# Altium integrated library Linear Technology PMIC-Switching Reg LT1074-LT8705.IntLib: 2252 symbols (part 64 of 124)
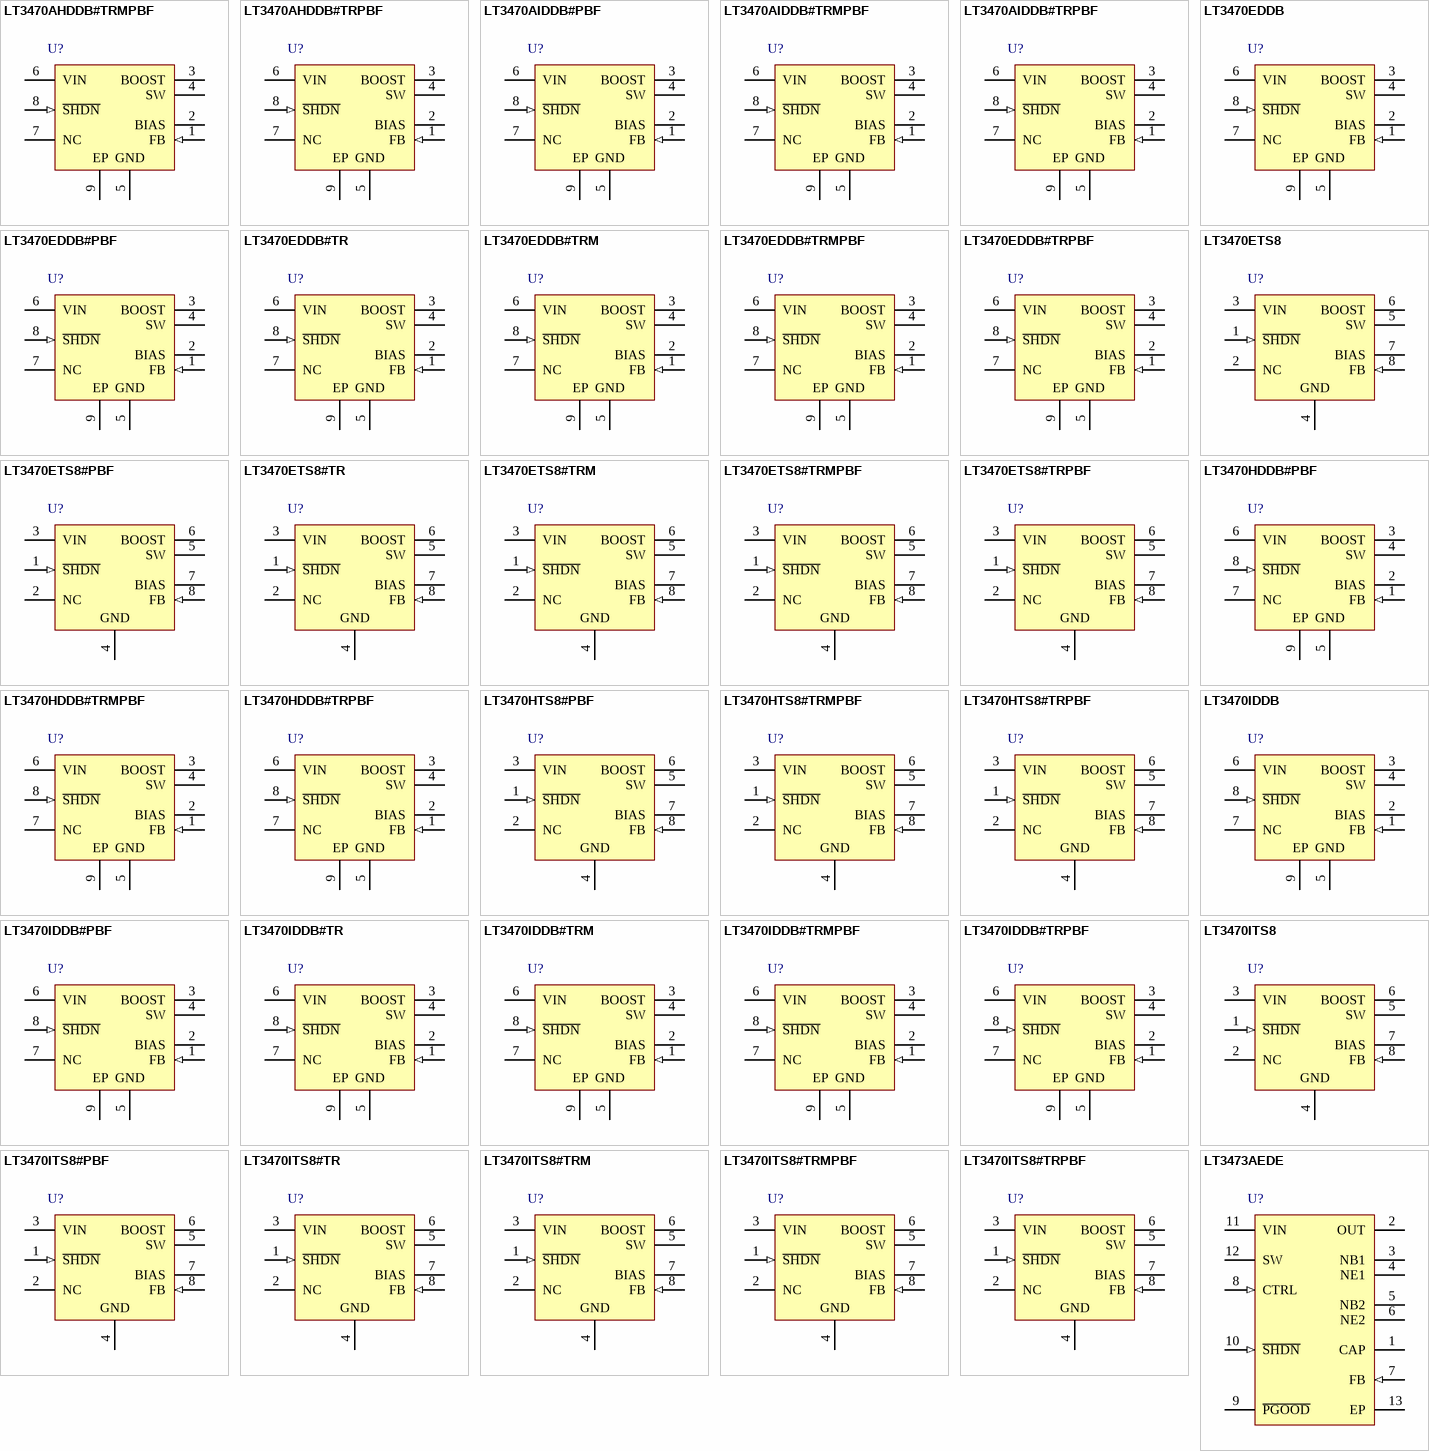
[diagram p134: symbols LT3470AHDDB#TRMPBF to LT3473AEDE]

## LT3470ITS8
designator U?
Micropower Buck Regulator with Integrated Boost and Catch Diode, 8-pin SOT23 (TS8-8), -40 to 125 degC; Manufacturer: Linear Technology; PartNumber: LT3470ITS8; Number of Outputs: 1; PackageReference: TS8-8; PackageDescription: 8-Pin Plastic TSOT-23, Body 2.9 x 1.63 mm, Pitch 0.65 mm; RoHS: FALSE
footprint LT-TS8-8-TSOT-23_V (SOT23, 8-Leads, Body 2.9x1.75mm, Pitch 0.65mm)
pins: 1 ~{SHDN} (in) "The S\H\D\N\ pin is used to put the LT3470 in shutdown mode. Tie to ground to shut down the LT3470A. Apply 2V or more for normal operation. If the shutdown feature is not used, tie this pin to the VIN pin.", 2 NC "This pin can be left floating, connected to VIN, or tied to GND.", 3 VIN (power) "The VIN pin supplies current to the LT3470¡¯s internal regulator and to the internal power switch. This pin must be locally bypassed.", 4 GND (power) "Tie the GND pin to a local ground plane below the LT3470A and the circuit components. Return the feedback divider to this pin.", 5 SW (power) "The SW pin is the output of the internal power switch. Connect this pin to the inductor, catch diode and boost capacitor.", 6 BOOST "The BOOST pin is used to provide a drive voltage, which is higher than the input voltage, to the internal bipolar NPN power switch.", 7 BIAS (power) "The BIAS pin connects to the internal boost Schottky diode and to the internal regulator. Tie to VOUT when VOUT > 2.5V or to VIN otherwise. When VBIAS > 3V the BIAS pin will supply current to the internal regulator.", 8 FB (in) "The LT3470 regulates its feedback pin to 1.25V. Connect the feedback resistor divider tap to this pin. Set the output voltage according to VOUT = 1.25V (1 + R1/R2) or R1 = R2 (VOUT/1.25 - 1)."

## LT3470ITS8#PBF
designator U?
Micropower Buck Regulator with Integrated Boost and Catch Diode, 8-pin SOT23 (TS8-8), -40 to 125 degC, Pb-Free; Manufacturer: Linear Technology; PartNumber: LT3470ITS8#PBF; Number of Outputs: 1; PackageReference: TS8-8; PackageDescription: 8-Pin Plastic TSOT-23, Body 2.9 x 1.63 mm, Pitch 0.65 mm; Supplier 1: Newark; Supplier Part Number 1: 61M3375; RoHS: TRUE
footprint LT-TS8-8-TSOT-23_V (SOT23, 8-Leads, Body 2.9x1.75mm, Pitch 0.65mm)
pins: 1 ~{SHDN} (in) "The S\H\D\N\ pin is used to put the LT3470 in shutdown mode. Tie to ground to shut down the LT3470A. Apply 2V or more for normal operation. If the shutdown feature is not used, tie this pin to the VIN pin.", 2 NC "This pin can be left floating, connected to VIN, or tied to GND.", 3 VIN (power) "The VIN pin supplies current to the LT3470¡¯s internal regulator and to the internal power switch. This pin must be locally bypassed.", 4 GND (power) "Tie the GND pin to a local ground plane below the LT3470A and the circuit components. Return the feedback divider to this pin.", 5 SW (power) "The SW pin is the output of the internal power switch. Connect this pin to the inductor, catch diode and boost capacitor.", 6 BOOST "The BOOST pin is used to provide a drive voltage, which is higher than the input voltage, to the internal bipolar NPN power switch.", 7 BIAS (power) "The BIAS pin connects to the internal boost Schottky diode and to the internal regulator. Tie to VOUT when VOUT > 2.5V or to VIN otherwise. When VBIAS > 3V the BIAS pin will supply current to the internal regulator.", 8 FB (in) "The LT3470 regulates its feedback pin to 1.25V. Connect the feedback resistor divider tap to this pin. Set the output voltage according to VOUT = 1.25V (1 + R1/R2) or R1 = R2 (VOUT/1.25 - 1)."

## LT3470ITS8#TR
designator U?
Micropower Buck Regulator with Integrated Boost and Catch Diode, 8-pin SOT23 (TS8-8), -40 to 125 degC, Tape and Reel; Manufacturer: Linear Technology; PartNumber: LT3470ITS8#TR; Number of Outputs: 1; PackageReference: TS8-8; PackageDescription: 8-Pin Plastic TSOT-23, Body 2.9 x 1.63 mm, Pitch 0.65 mm; RoHS: FALSE
footprint LT-TS8-8-TSOT-23_V (SOT23, 8-Leads, Body 2.9x1.75mm, Pitch 0.65mm)
pins: 1 ~{SHDN} (in) "The S\H\D\N\ pin is used to put the LT3470 in shutdown mode. Tie to ground to shut down the LT3470A. Apply 2V or more for normal operation. If the shutdown feature is not used, tie this pin to the VIN pin.", 2 NC "This pin can be left floating, connected to VIN, or tied to GND.", 3 VIN (power) "The VIN pin supplies current to the LT3470¡¯s internal regulator and to the internal power switch. This pin must be locally bypassed.", 4 GND (power) "Tie the GND pin to a local ground plane below the LT3470A and the circuit components. Return the feedback divider to this pin.", 5 SW (power) "The SW pin is the output of the internal power switch. Connect this pin to the inductor, catch diode and boost capacitor.", 6 BOOST "The BOOST pin is used to provide a drive voltage, which is higher than the input voltage, to the internal bipolar NPN power switch.", 7 BIAS (power) "The BIAS pin connects to the internal boost Schottky diode and to the internal regulator. Tie to VOUT when VOUT > 2.5V or to VIN otherwise. When VBIAS > 3V the BIAS pin will supply current to the internal regulator.", 8 FB (in) "The LT3470 regulates its feedback pin to 1.25V. Connect the feedback resistor divider tap to this pin. Set the output voltage according to VOUT = 1.25V (1 + R1/R2) or R1 = R2 (VOUT/1.25 - 1)."

## LT3470ITS8#TRM
designator U?
Micropower Buck Regulator with Integrated Boost and Catch Diode, 8-pin SOT23 (TS8-8), -40 to 125 degC, Mini Tape and Reel; Manufacturer: Linear Technology; PartNumber: LT3470ITS8#TRM; Number of Outputs: 1; PackageReference: TS8-8; PackageDescription: 8-Pin Plastic TSOT-23, Body 2.9 x 1.63 mm, Pitch 0.65 mm; RoHS: FALSE
footprint LT-TS8-8-TSOT-23_V (SOT23, 8-Leads, Body 2.9x1.75mm, Pitch 0.65mm)
pins: 1 ~{SHDN} (in) "The S\H\D\N\ pin is used to put the LT3470 in shutdown mode. Tie to ground to shut down the LT3470A. Apply 2V or more for normal operation. If the shutdown feature is not used, tie this pin to the VIN pin.", 2 NC "This pin can be left floating, connected to VIN, or tied to GND.", 3 VIN (power) "The VIN pin supplies current to the LT3470¡¯s internal regulator and to the internal power switch. This pin must be locally bypassed.", 4 GND (power) "Tie the GND pin to a local ground plane below the LT3470A and the circuit components. Return the feedback divider to this pin.", 5 SW (power) "The SW pin is the output of the internal power switch. Connect this pin to the inductor, catch diode and boost capacitor.", 6 BOOST "The BOOST pin is used to provide a drive voltage, which is higher than the input voltage, to the internal bipolar NPN power switch.", 7 BIAS (power) "The BIAS pin connects to the internal boost Schottky diode and to the internal regulator. Tie to VOUT when VOUT > 2.5V or to VIN otherwise. When VBIAS > 3V the BIAS pin will supply current to the internal regulator.", 8 FB (in) "The LT3470 regulates its feedback pin to 1.25V. Connect the feedback resistor divider tap to this pin. Set the output voltage according to VOUT = 1.25V (1 + R1/R2) or R1 = R2 (VOUT/1.25 - 1)."

## LT3470ITS8#TRMPBF
designator U?
Micropower Buck Regulator with Integrated Boost and Catch Diode, 8-pin SOT23 (TS8-8), -40 to 125 degC, Pb-Free, Mini Tape and Reel; Manufacturer: Linear Technology; PartNumber: LT3470ITS8#TRMPBF; Number of Outputs: 1; PackageReference: TS8-8; PackageDescription: 8-Pin Plastic TSOT-23, Body 2.9 x 1.63 mm, Pitch 0.65 mm; Supplier 1: Digi-Key; Supplier Part Number 1: LT3470ITS8#TRMPBFTR-ND; RoHS: TRUE
footprint LT-TS8-8-TSOT-23_V (SOT23, 8-Leads, Body 2.9x1.75mm, Pitch 0.65mm)
pins: 1 ~{SHDN} (in) "The S\H\D\N\ pin is used to put the LT3470 in shutdown mode. Tie to ground to shut down the LT3470A. Apply 2V or more for normal operation. If the shutdown feature is not used, tie this pin to the VIN pin.", 2 NC "This pin can be left floating, connected to VIN, or tied to GND.", 3 VIN (power) "The VIN pin supplies current to the LT3470¡¯s internal regulator and to the internal power switch. This pin must be locally bypassed.", 4 GND (power) "Tie the GND pin to a local ground plane below the LT3470A and the circuit components. Return the feedback divider to this pin.", 5 SW (power) "The SW pin is the output of the internal power switch. Connect this pin to the inductor, catch diode and boost capacitor.", 6 BOOST "The BOOST pin is used to provide a drive voltage, which is higher than the input voltage, to the internal bipolar NPN power switch.", 7 BIAS (power) "The BIAS pin connects to the internal boost Schottky diode and to the internal regulator. Tie to VOUT when VOUT > 2.5V or to VIN otherwise. When VBIAS > 3V the BIAS pin will supply current to the internal regulator.", 8 FB (in) "The LT3470 regulates its feedback pin to 1.25V. Connect the feedback resistor divider tap to this pin. Set the output voltage according to VOUT = 1.25V (1 + R1/R2) or R1 = R2 (VOUT/1.25 - 1)."

## LT3470ITS8#TRPBF
designator U?
Micropower Buck Regulator with Integrated Boost and Catch Diode, 8-pin SOT23 (TS8-8), -40 to 125 degC, Pb-Free, Tape and Reel; Manufacturer: Linear Technology; PartNumber: LT3470ITS8#TRPBF; Number of Outputs: 1; PackageReference: TS8-8; PackageDescription: 8-Pin Plastic TSOT-23, Body 2.9 x 1.63 mm, Pitch 0.65 mm; Supplier 1: Digi-Key; Supplier Part Number 1: LT3470ITS8#TRPBF-ND; RoHS: TRUE
footprint LT-TS8-8-TSOT-23_V (SOT23, 8-Leads, Body 2.9x1.75mm, Pitch 0.65mm)
pins: 1 ~{SHDN} (in) "The S\H\D\N\ pin is used to put the LT3470 in shutdown mode. Tie to ground to shut down the LT3470A. Apply 2V or more for normal operation. If the shutdown feature is not used, tie this pin to the VIN pin.", 2 NC "This pin can be left floating, connected to VIN, or tied to GND.", 3 VIN (power) "The VIN pin supplies current to the LT3470¡¯s internal regulator and to the internal power switch. This pin must be locally bypassed.", 4 GND (power) "Tie the GND pin to a local ground plane below the LT3470A and the circuit components. Return the feedback divider to this pin.", 5 SW (power) "The SW pin is the output of the internal power switch. Connect this pin to the inductor, catch diode and boost capacitor.", 6 BOOST "The BOOST pin is used to provide a drive voltage, which is higher than the input voltage, to the internal bipolar NPN power switch.", 7 BIAS (power) "The BIAS pin connects to the internal boost Schottky diode and to the internal regulator. Tie to VOUT when VOUT > 2.5V or to VIN otherwise. When VBIAS > 3V the BIAS pin will supply current to the internal regulator.", 8 FB (in) "The LT3470 regulates its feedback pin to 1.25V. Connect the feedback resistor divider tap to this pin. Set the output voltage according to VOUT = 1.25V (1 + R1/R2) or R1 = R2 (VOUT/1.25 - 1)."

## LT3473AEDE
designator U?
Micropower 1 A Boost Converter with Schottky and Output Disconnect, Includes Two NPN Transistors for Generating Intermediate Bias Voltage Max, 12-pin SON (DE-12), -40 to 85 degC; Manufacturer: Linear Technology; PartNumber: LT3473AEDE; Number of Outputs: 1; PackageReference: DE-12; PackageDescription: 12-Pin Plastic DFN, Body 4 x 3 mm, Pitch 0.5 mm; RoHS: FALSE
footprint LT-DE-12-05-08-1708_V (SON, 12-Leads, Body 4x3mm, Pitch 0.5mm, Thermal Pad 3.3x1.7mm)
pins: 1 CAP "Internal Output Voltage. This pin is the Schottky cathode and disconnect PNP emitter. Connect output capacitor here.", 2 OUT "Output of Disconnect Circuit. Bypass this pin with capacitor to ground.", 3 NB1 "NPN1 Base.", 4 NE1 "NPN1 Emitter.", 5 NB2 "NPN2 Base.", 6 NE2 "NPN2 Emitter.", 7 FB (in) "Feedback Pin. Pin voltage is regulated to 1.25V if internal reference is used or to the CTRL pin voltage if the CTRL pin voltage is between 0V and 1.25V. Connect the fee", 8 CTRL (in) "External Reference Pin. This pin sets the FB voltage externally between 0V and 1.25V. Tie this pin 1.5V or higher to use the internal 1.25V reference.", 9 ~{PGOOD} (oc) "Power Good Output. Open collector logic output that starts to sink current when FB reaches within 100mV of the reference voltage.", 10 ~{SHDN} (in) "Shutdown Pin. Connect to 1.4V or higher to enable device; 0.2V or less to disable device. Also functions as soft-start. Use RC filter as shown in Figure 4.", 11 VIN (power) "Input Supply Pin. Must be locally bypassed with a X5R or X7R type ceramic capacitor.", 12 SW "Switch Pin. Connect inductor here. Minimize the metal trace area connected to the pin to minimize EMI.", 13 EP (power) "Ground. Solder directly to PCB ground plane through multiple vias under the package for optimum thermal performance."

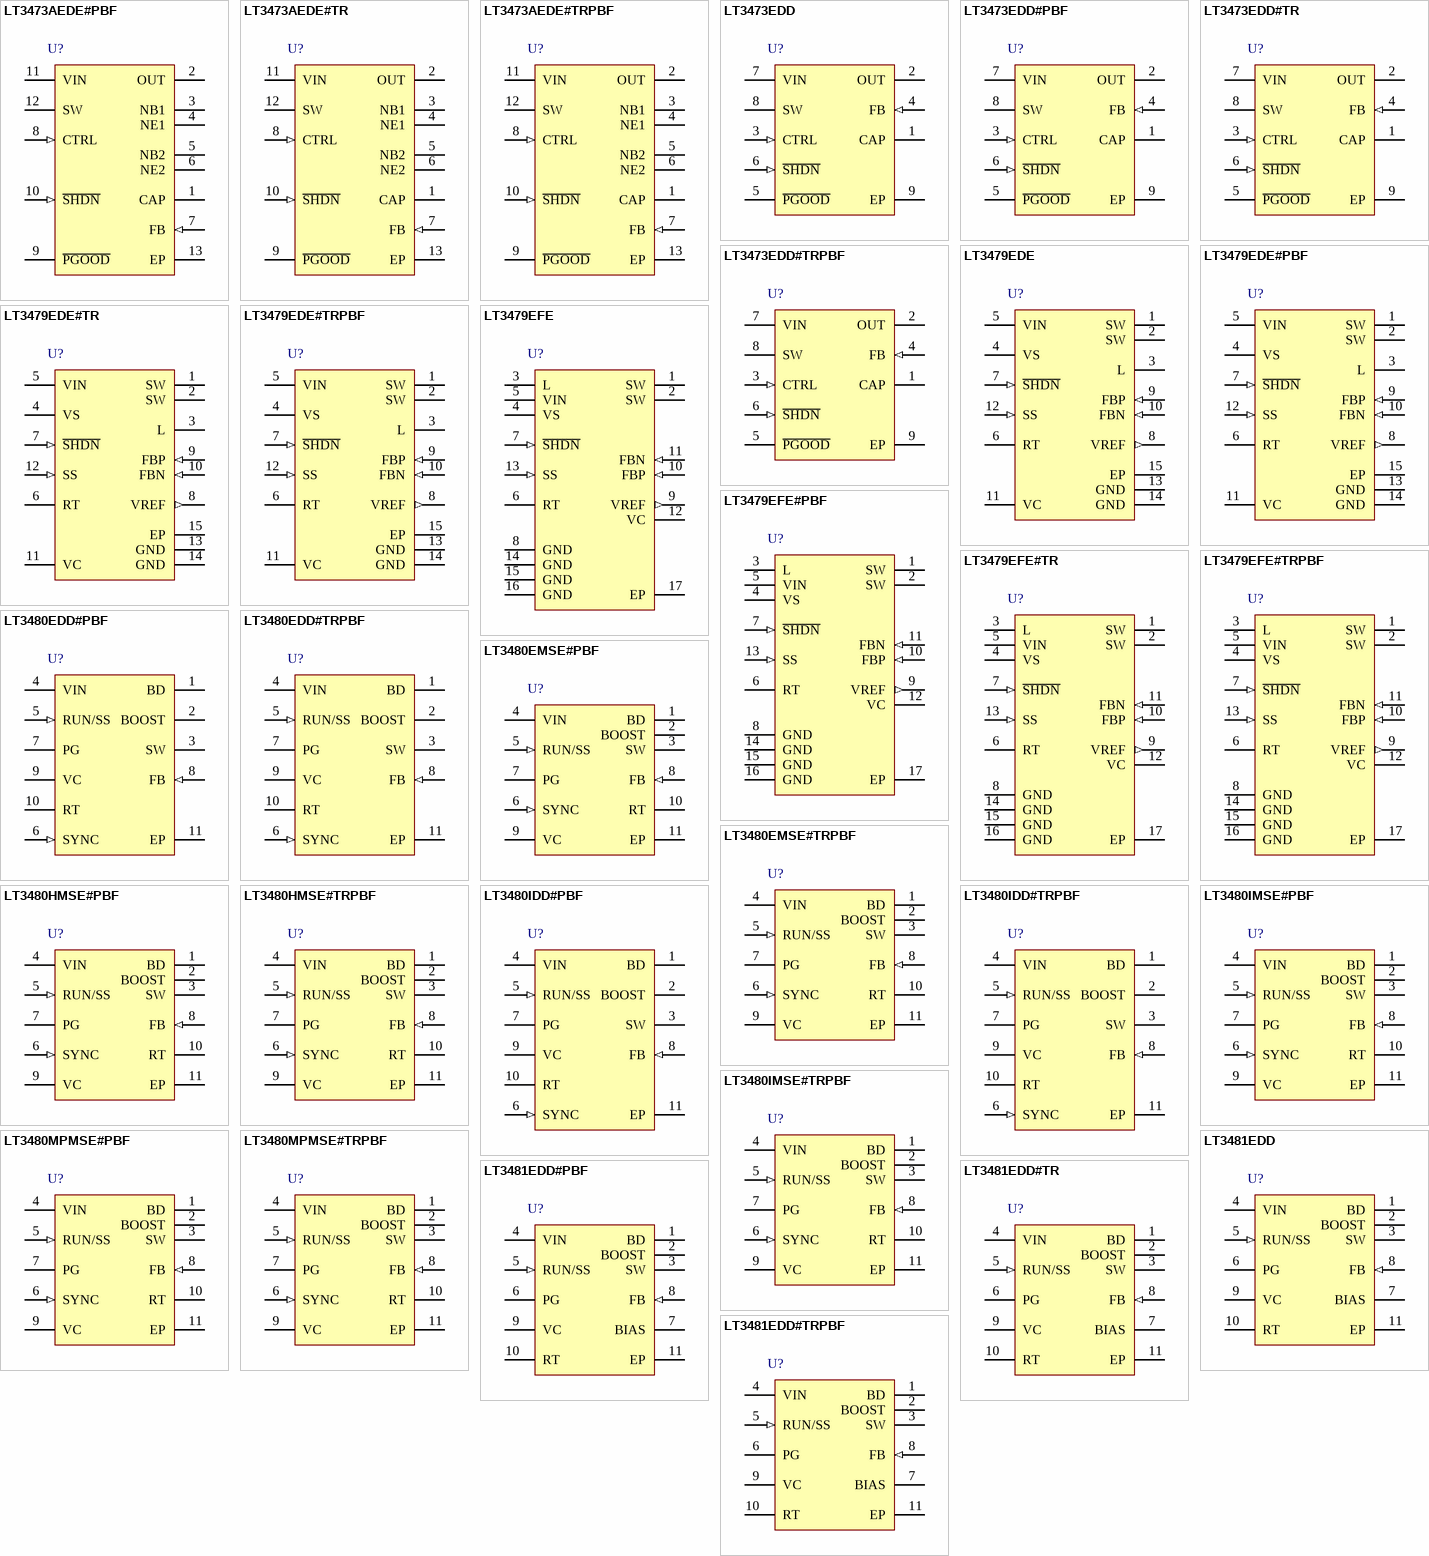
[diagram p39: symbols LT3473AEDE#PBF to LT3481EDD#TRPBF]

## LT3473AEDE#PBF
designator U?
Micropower 1 A Boost Converter with Schottky and Output Disconnect, Includes Two NPN Transistors for Generating Intermediate Bias Voltage Max, 12-pin SON (DE-12), -40 to 85 degC, Pb-Free; Manufacturer: Linear Technology; PartNumber: LT3473AEDE#PBF; Number of Outputs: 1; PackageReference: DE-12; PackageDescription: 12-Pin Plastic DFN, Body 4 x 3 mm, Pitch 0.5 mm; Supplier 1: Digi-Key; Supplier Part Number 1: LT3473AEDE#PBF-ND; RoHS: TRUE
footprint LT-DE-12-05-08-1708_V (SON, 12-Leads, Body 4x3mm, Pitch 0.5mm, Thermal Pad 3.3x1.7mm)
pins: 1 CAP "Internal Output Voltage. This pin is the Schottky cathode and disconnect PNP emitter. Connect output capacitor here.", 2 OUT "Output of Disconnect Circuit. Bypass this pin with capacitor to ground.", 3 NB1 "NPN1 Base.", 4 NE1 "NPN1 Emitter.", 5 NB2 "NPN2 Base.", 6 NE2 "NPN2 Emitter.", 7 FB (in) "Feedback Pin. Pin voltage is regulated to 1.25V if internal reference is used or to the CTRL pin voltage if the CTRL pin voltage is between 0V and 1.25V. Connect the fee", 8 CTRL (in) "External Reference Pin. This pin sets the FB voltage externally between 0V and 1.25V. Tie this pin 1.5V or higher to use the internal 1.25V reference.", 9 ~{PGOOD} (oc) "Power Good Output. Open collector logic output that starts to sink current when FB reaches within 100mV of the reference voltage.", 10 ~{SHDN} (in) "Shutdown Pin. Connect to 1.4V or higher to enable device; 0.2V or less to disable device. Also functions as soft-start. Use RC filter as shown in Figure 4.", 11 VIN (power) "Input Supply Pin. Must be locally bypassed with a X5R or X7R type ceramic capacitor.", 12 SW "Switch Pin. Connect inductor here. Minimize the metal trace area connected to the pin to minimize EMI.", 13 EP (power) "Ground. Solder directly to PCB ground plane through multiple vias under the package for optimum thermal performance."

## LT3473AEDE#TR
designator U?
Micropower 1 A Boost Converter with Schottky and Output Disconnect, Includes Two NPN Transistors for Generating Intermediate Bias Voltage Max, 12-pin SON (DE-12), -40 to 85 degC, Tape and Reel; Manufacturer: Linear Technology; PartNumber: LT3473AEDE#TR; Number of Outputs: 1; PackageReference: DE-12; PackageDescription: 12-Pin Plastic DFN, Body 4 x 3 mm, Pitch 0.5 mm; RoHS: FALSE
footprint LT-DE-12-05-08-1708_V (SON, 12-Leads, Body 4x3mm, Pitch 0.5mm, Thermal Pad 3.3x1.7mm)
pins: 1 CAP "Internal Output Voltage. This pin is the Schottky cathode and disconnect PNP emitter. Connect output capacitor here.", 2 OUT "Output of Disconnect Circuit. Bypass this pin with capacitor to ground.", 3 NB1 "NPN1 Base.", 4 NE1 "NPN1 Emitter.", 5 NB2 "NPN2 Base.", 6 NE2 "NPN2 Emitter.", 7 FB (in) "Feedback Pin. Pin voltage is regulated to 1.25V if internal reference is used or to the CTRL pin voltage if the CTRL pin voltage is between 0V and 1.25V. Connect the fee", 8 CTRL (in) "External Reference Pin. This pin sets the FB voltage externally between 0V and 1.25V. Tie this pin 1.5V or higher to use the internal 1.25V reference.", 9 ~{PGOOD} (oc) "Power Good Output. Open collector logic output that starts to sink current when FB reaches within 100mV of the reference voltage.", 10 ~{SHDN} (in) "Shutdown Pin. Connect to 1.4V or higher to enable device; 0.2V or less to disable device. Also functions as soft-start. Use RC filter as shown in Figure 4.", 11 VIN (power) "Input Supply Pin. Must be locally bypassed with a X5R or X7R type ceramic capacitor.", 12 SW "Switch Pin. Connect inductor here. Minimize the metal trace area connected to the pin to minimize EMI.", 13 EP (power) "Ground. Solder directly to PCB ground plane through multiple vias under the package for optimum thermal performance."

## LT3473AEDE#TRPBF
designator U?
Micropower 1 A Boost Converter with Schottky and Output Disconnect, Includes Two NPN Transistors for Generating Intermediate Bias Voltage Max, 12-pin SON (DE-12), -40 to 85 degC, Pb-Free, Tape and Reel; Manufacturer: Linear Technology; PartNumber: LT3473AEDE#TRPBF; Number of Outputs: 1; PackageReference: DE-12; PackageDescription: 12-Pin Plastic DFN, Body 4 x 3 mm, Pitch 0.5 mm; Supplier 1: Digi-Key; Supplier Part Number 1: LT3473AEDE#TRPBF-ND; RoHS: TRUE
footprint LT-DE-12-05-08-1708_V (SON, 12-Leads, Body 4x3mm, Pitch 0.5mm, Thermal Pad 3.3x1.7mm)
pins: 1 CAP "Internal Output Voltage. This pin is the Schottky cathode and disconnect PNP emitter. Connect output capacitor here.", 2 OUT "Output of Disconnect Circuit. Bypass this pin with capacitor to ground.", 3 NB1 "NPN1 Base.", 4 NE1 "NPN1 Emitter.", 5 NB2 "NPN2 Base.", 6 NE2 "NPN2 Emitter.", 7 FB (in) "Feedback Pin. Pin voltage is regulated to 1.25V if internal reference is used or to the CTRL pin voltage if the CTRL pin voltage is between 0V and 1.25V. Connect the fee", 8 CTRL (in) "External Reference Pin. This pin sets the FB voltage externally between 0V and 1.25V. Tie this pin 1.5V or higher to use the internal 1.25V reference.", 9 ~{PGOOD} (oc) "Power Good Output. Open collector logic output that starts to sink current when FB reaches within 100mV of the reference voltage.", 10 ~{SHDN} (in) "Shutdown Pin. Connect to 1.4V or higher to enable device; 0.2V or less to disable device. Also functions as soft-start. Use RC filter as shown in Figure 4.", 11 VIN (power) "Input Supply Pin. Must be locally bypassed with a X5R or X7R type ceramic capacitor.", 12 SW "Switch Pin. Connect inductor here. Minimize the metal trace area connected to the pin to minimize EMI.", 13 EP (power) "Ground. Solder directly to PCB ground plane through multiple vias under the package for optimum thermal performance."

## LT3473EDD
designator U?
Micropower 1 A Boost Converter with Schottky and Output Disconnect Max, 8-pin SON (DD-8), -40 to 85 degC; Manufacturer: Linear Technology; PartNumber: LT3473EDD; Number of Outputs: 1; PackageReference: DD-8; PackageDescription: 8-Pin Plastic DFN, Body 3 x 3 mm, Pitch 0.5 mm; RoHS: FALSE
footprint LT-DD-8_V (SON, 8-Leads, Body 3x3mm, Pitch 0.5mm, Thermal Pad 1.65x2.38 mm)
pins: 1 CAP "Internal Output Voltage. This pin is the Schottky cathode and disconnect PNP emitter. Connect output capacitor here.", 2 OUT (power) "Output of Disconnect Circuit. Bypass this pin with capacitor to ground.", 3 CTRL (in) "External Reference Pin. This pin sets the FB voltage externally between 0V and 1.25V. Tie this pin 1.5V or higher to use the internal 1.25V reference.", 4 FB (in) "Feedback Pin. Pin voltage is regulated to 1.25V if internal reference is used or to the CTRL pin voltage if the CTRL pin voltage is between 0V and 1.25V. Connect the feedback resistor divider to this pin.", 5 ~{PGOOD} (oc) "Power Good Output. Open collector logic output that starts to sink current when FB reaches within 100mV of the reference voltage.", 6 ~{SHDN} (in) "Shutdown Pin. Connect to 1.4V or higher to enable device; 0.2V or less to disable device. Also functions as soft-start. Use RC filter as shown in Figure 4.", 7 VIN (power) "Input Supply Pin. Must be locally bypassed with a X5R or X7R type ceramic capacitor.", 8 SW "Switch Pin. Connect inductor here. Minimize the metal trace area connected to the pin to minimize EMI.", 9 EP (power) "Ground. Solder directly to PCB ground plane through multiple vias under the package for optimum thermal performance."

## LT3473EDD#PBF
designator U?
Micropower 1 A Boost Converter with Schottky and Output Disconnect Max, 8-pin SON (DD-8), -40 to 85 degC, Pb-Free; Manufacturer: Linear Technology; PartNumber: LT3473EDD#PBF; Number of Outputs: 1; PackageReference: DD-8; PackageDescription: 8-Pin Plastic DFN, Body 3 x 3 mm, Pitch 0.5 mm; Supplier 1: Digi-Key; Supplier Part Number 1: LT3473EDD#PBF-ND; RoHS: TRUE
footprint LT-DD-8_V (SON, 8-Leads, Body 3x3mm, Pitch 0.5mm, Thermal Pad 1.65x2.38 mm)
pins: 1 CAP "Internal Output Voltage. This pin is the Schottky cathode and disconnect PNP emitter. Connect output capacitor here.", 2 OUT (power) "Output of Disconnect Circuit. Bypass this pin with capacitor to ground.", 3 CTRL (in) "External Reference Pin. This pin sets the FB voltage externally between 0V and 1.25V. Tie this pin 1.5V or higher to use the internal 1.25V reference.", 4 FB (in) "Feedback Pin. Pin voltage is regulated to 1.25V if internal reference is used or to the CTRL pin voltage if the CTRL pin voltage is between 0V and 1.25V. Connect the feedback resistor divider to this pin.", 5 ~{PGOOD} (oc) "Power Good Output. Open collector logic output that starts to sink current when FB reaches within 100mV of the reference voltage.", 6 ~{SHDN} (in) "Shutdown Pin. Connect to 1.4V or higher to enable device; 0.2V or less to disable device. Also functions as soft-start. Use RC filter as shown in Figure 4.", 7 VIN (power) "Input Supply Pin. Must be locally bypassed with a X5R or X7R type ceramic capacitor.", 8 SW "Switch Pin. Connect inductor here. Minimize the metal trace area connected to the pin to minimize EMI.", 9 EP (power) "Ground. Solder directly to PCB ground plane through multiple vias under the package for optimum thermal performance."

## LT3473EDD#TR
designator U?
Micropower 1 A Boost Converter with Schottky and Output Disconnect Max, 8-pin SON (DD-8), -40 to 85 degC, Tape and Reel; Manufacturer: Linear Technology; PartNumber: LT3473EDD#TR; Number of Outputs: 1; PackageReference: DD-8; PackageDescription: 8-Pin Plastic DFN, Body 3 x 3 mm, Pitch 0.5 mm; RoHS: FALSE
footprint LT-DD-8_V (SON, 8-Leads, Body 3x3mm, Pitch 0.5mm, Thermal Pad 1.65x2.38 mm)
pins: 1 CAP "Internal Output Voltage. This pin is the Schottky cathode and disconnect PNP emitter. Connect output capacitor here.", 2 OUT (power) "Output of Disconnect Circuit. Bypass this pin with capacitor to ground.", 3 CTRL (in) "External Reference Pin. This pin sets the FB voltage externally between 0V and 1.25V. Tie this pin 1.5V or higher to use the internal 1.25V reference.", 4 FB (in) "Feedback Pin. Pin voltage is regulated to 1.25V if internal reference is used or to the CTRL pin voltage if the CTRL pin voltage is between 0V and 1.25V. Connect the feedback resistor divider to this pin.", 5 ~{PGOOD} (oc) "Power Good Output. Open collector logic output that starts to sink current when FB reaches within 100mV of the reference voltage.", 6 ~{SHDN} (in) "Shutdown Pin. Connect to 1.4V or higher to enable device; 0.2V or less to disable device. Also functions as soft-start. Use RC filter as shown in Figure 4.", 7 VIN (power) "Input Supply Pin. Must be locally bypassed with a X5R or X7R type ceramic capacitor.", 8 SW "Switch Pin. Connect inductor here. Minimize the metal trace area connected to the pin to minimize EMI.", 9 EP (power) "Ground. Solder directly to PCB ground plane through multiple vias under the package for optimum thermal performance."

## LT3473EDD#TRPBF
designator U?
Micropower 1 A Boost Converter with Schottky and Output Disconnect Max, 8-pin SON (DD-8), -40 to 85 degC, Pb-Free, Tape and Reel; Manufacturer: Linear Technology; PartNumber: LT3473EDD#TRPBF; Number of Outputs: 1; PackageReference: DD-8; PackageDescription: 8-Pin Plastic DFN, Body 3 x 3 mm, Pitch 0.5 mm; Supplier 1: Digi-Key; Supplier Part Number 1: LT3473EDD#TRPBF-ND; RoHS: TRUE
footprint LT-DD-8_V (SON, 8-Leads, Body 3x3mm, Pitch 0.5mm, Thermal Pad 1.65x2.38 mm)
pins: 1 CAP "Internal Output Voltage. This pin is the Schottky cathode and disconnect PNP emitter. Connect output capacitor here.", 2 OUT (power) "Output of Disconnect Circuit. Bypass this pin with capacitor to ground.", 3 CTRL (in) "External Reference Pin. This pin sets the FB voltage externally between 0V and 1.25V. Tie this pin 1.5V or higher to use the internal 1.25V reference.", 4 FB (in) "Feedback Pin. Pin voltage is regulated to 1.25V if internal reference is used or to the CTRL pin voltage if the CTRL pin voltage is between 0V and 1.25V. Connect the feedback resistor divider to this pin.", 5 ~{PGOOD} (oc) "Power Good Output. Open collector logic output that starts to sink current when FB reaches within 100mV of the reference voltage.", 6 ~{SHDN} (in) "Shutdown Pin. Connect to 1.4V or higher to enable device; 0.2V or less to disable device. Also functions as soft-start. Use RC filter as shown in Figure 4.", 7 VIN (power) "Input Supply Pin. Must be locally bypassed with a X5R or X7R type ceramic capacitor.", 8 SW "Switch Pin. Connect inductor here. Minimize the metal trace area connected to the pin to minimize EMI.", 9 EP (power) "Ground. Solder directly to PCB ground plane through multiple vias under the package for optimum thermal performance."

## LT3479EDE
designator U?
3 A, Full Featured DC/DC Converter with Soft-Start and Inrush Current Protection, 14-pin SON (DE-14), -40 to 85 degC; Manufacturer: Linear Technology; PartNumber: LT3479EDE; Number of Outputs: 1; PackageReference: DE-14; PackageDescription: 14-Pin Plastic DFN, Body 4 x 3 mm, Pitch 0.5 mm; Supplier 1: Newark; Supplier Part Number 1: 57M8333; RoHS: FALSE
footprint LT-DE-14_V (SON, 14-Leads, Body 4x3mm, Pitch 0.5mm, Thermal Pad 3.3x1.7mm)
pins: 1 SW (power) "Switch Pins. Collector of the internal NPN power switch. Connect the inductor and diode here and minimize the metal trace area connected to this pin to minimize electromagnetic interference.", 2 SW (power) "Switch Pins. Collector of the internal NPN power switch. Connect the inductor and diode here and minimize the metal trace area connected to this pin to minimize electromagnetic interference.", 3 L (power) "Inductor Pin. Connect the inductor to this pin.", 4 VS (power) "Inductor Supply. Must be locally bypassed. Powers the switch and the inductor. In case only one supply voltage is available, tie VIN and VS together.", 5 VIN (power) "Input Supply. Must be locally bypassed. Powers the internal control circuitry.", 6 RT "Timing Resistor Pin. Adjusts the switching frequency. Do not leave this pin open. See Table 4 for RT values and switching frequencies.", 7 ~{SHDN} (in) "Shutdown. Tie to 1.5V or greater to enable the device. Tie below 0.3V to turn off the device.", 8 VREF (out) "Bandgap Voltage Reference. Internally set to 1.235V. Connect this pin to FBP if generating a positive output, or to an external resistor divider if generating a negative voltage. This pin can provide up to 100uA of current (See Datasheet)", 9 FBP (in) "The Noninverting Input to the Error Amplifier. Connect resistive divider tap here for negative output voltage.", 10 FBN (in) "The Inverting Input to the Error Amplifier. Connect resistive divider tap here for positive output voltage.", 11 VC "Compensation Pin for Error Amplifier. Connect a series RC from this pin to GND. Typical values are 10kohm and 2.2nF.", 12 SS (in) "Soft-Start. Place a soft-start capacitor here. Leave floating if not in use.", 13 GND (power) "Ground. Tie directly to local ground plane.", 14 GND (power) "Ground. Tie directly to local ground plane.", 15 EP (power) "Power Ground. Must be connected to electrical PCB ground."

## LT3479EDE#PBF
designator U?
3 A, Full Featured DC/DC Converter with Soft-Start and Inrush Current Protection, 14-pin SON (DE-14), -40 to 85 degC, Pb-Free; Manufacturer: Linear Technology; PartNumber: LT3479EDE#PBF; Number of Outputs: 1; PackageReference: DE-14; PackageDescription: 14-Pin Plastic DFN, Body 4 x 3 mm, Pitch 0.5 mm; Supplier 1: Digi-Key; Supplier Part Number 1: LT3479EDE#PBF-ND; RoHS: TRUE
footprint LT-DE-14_V (SON, 14-Leads, Body 4x3mm, Pitch 0.5mm, Thermal Pad 3.3x1.7mm)
pins: 1 SW (power) "Switch Pins. Collector of the internal NPN power switch. Connect the inductor and diode here and minimize the metal trace area connected to this pin to minimize electromagnetic interference.", 2 SW (power) "Switch Pins. Collector of the internal NPN power switch. Connect the inductor and diode here and minimize the metal trace area connected to this pin to minimize electromagnetic interference.", 3 L (power) "Inductor Pin. Connect the inductor to this pin.", 4 VS (power) "Inductor Supply. Must be locally bypassed. Powers the switch and the inductor. In case only one supply voltage is available, tie VIN and VS together.", 5 VIN (power) "Input Supply. Must be locally bypassed. Powers the internal control circuitry.", 6 RT "Timing Resistor Pin. Adjusts the switching frequency. Do not leave this pin open. See Table 4 for RT values and switching frequencies.", 7 ~{SHDN} (in) "Shutdown. Tie to 1.5V or greater to enable the device. Tie below 0.3V to turn off the device.", 8 VREF (out) "Bandgap Voltage Reference. Internally set to 1.235V. Connect this pin to FBP if generating a positive output, or to an external resistor divider if generating a negative voltage. This pin can provide up to 100uA of current (See Datasheet)", 9 FBP (in) "The Noninverting Input to the Error Amplifier. Connect resistive divider tap here for negative output voltage.", 10 FBN (in) "The Inverting Input to the Error Amplifier. Connect resistive divider tap here for positive output voltage.", 11 VC "Compensation Pin for Error Amplifier. Connect a series RC from this pin to GND. Typical values are 10kohm and 2.2nF.", 12 SS (in) "Soft-Start. Place a soft-start capacitor here. Leave floating if not in use.", 13 GND (power) "Ground. Tie directly to local ground plane.", 14 GND (power) "Ground. Tie directly to local ground plane.", 15 EP (power) "Power Ground. Must be connected to electrical PCB ground."

## LT3479EDE#TR
designator U?
3 A, Full Featured DC/DC Converter with Soft-Start and Inrush Current Protection, 14-pin SON (DE-14), -40 to 85 degC, Tape and Reel; Manufacturer: Linear Technology; PartNumber: LT3479EDE#TR; Number of Outputs: 1; PackageReference: DE-14; PackageDescription: 14-Pin Plastic DFN, Body 4 x 3 mm, Pitch 0.5 mm; RoHS: FALSE
footprint LT-DE-14_V (SON, 14-Leads, Body 4x3mm, Pitch 0.5mm, Thermal Pad 3.3x1.7mm)
pins: 1 SW (power) "Switch Pins. Collector of the internal NPN power switch. Connect the inductor and diode here and minimize the metal trace area connected to this pin to minimize electromagnetic interference.", 2 SW (power) "Switch Pins. Collector of the internal NPN power switch. Connect the inductor and diode here and minimize the metal trace area connected to this pin to minimize electromagnetic interference.", 3 L (power) "Inductor Pin. Connect the inductor to this pin.", 4 VS (power) "Inductor Supply. Must be locally bypassed. Powers the switch and the inductor. In case only one supply voltage is available, tie VIN and VS together.", 5 VIN (power) "Input Supply. Must be locally bypassed. Powers the internal control circuitry.", 6 RT "Timing Resistor Pin. Adjusts the switching frequency. Do not leave this pin open. See Table 4 for RT values and switching frequencies.", 7 ~{SHDN} (in) "Shutdown. Tie to 1.5V or greater to enable the device. Tie below 0.3V to turn off the device.", 8 VREF (out) "Bandgap Voltage Reference. Internally set to 1.235V. Connect this pin to FBP if generating a positive output, or to an external resistor divider if generating a negative voltage. This pin can provide up to 100uA of current (See Datasheet)", 9 FBP (in) "The Noninverting Input to the Error Amplifier. Connect resistive divider tap here for negative output voltage.", 10 FBN (in) "The Inverting Input to the Error Amplifier. Connect resistive divider tap here for positive output voltage.", 11 VC "Compensation Pin for Error Amplifier. Connect a series RC from this pin to GND. Typical values are 10kohm and 2.2nF.", 12 SS (in) "Soft-Start. Place a soft-start capacitor here. Leave floating if not in use.", 13 GND (power) "Ground. Tie directly to local ground plane.", 14 GND (power) "Ground. Tie directly to local ground plane.", 15 EP (power) "Power Ground. Must be connected to electrical PCB ground."

## LT3479EDE#TRPBF
designator U?
3 A, Full Featured DC/DC Converter with Soft-Start and Inrush Current Protection, 14-pin SON (DE-14), -40 to 85 degC, Pb-Free, Tape and Reel; Manufacturer: Linear Technology; PartNumber: LT3479EDE#TRPBF; Number of Outputs: 1; PackageReference: DE-14; PackageDescription: 14-Pin Plastic DFN, Body 4 x 3 mm, Pitch 0.5 mm; Supplier 1: Digi-Key; Supplier Part Number 1: LT3479EDE#TRPBF-ND; RoHS: TRUE
footprint LT-DE-14_V (SON, 14-Leads, Body 4x3mm, Pitch 0.5mm, Thermal Pad 3.3x1.7mm)
pins: 1 SW (power) "Switch Pins. Collector of the internal NPN power switch. Connect the inductor and diode here and minimize the metal trace area connected to this pin to minimize electromagnetic interference.", 2 SW (power) "Switch Pins. Collector of the internal NPN power switch. Connect the inductor and diode here and minimize the metal trace area connected to this pin to minimize electromagnetic interference.", 3 L (power) "Inductor Pin. Connect the inductor to this pin.", 4 VS (power) "Inductor Supply. Must be locally bypassed. Powers the switch and the inductor. In case only one supply voltage is available, tie VIN and VS together.", 5 VIN (power) "Input Supply. Must be locally bypassed. Powers the internal control circuitry.", 6 RT "Timing Resistor Pin. Adjusts the switching frequency. Do not leave this pin open. See Table 4 for RT values and switching frequencies.", 7 ~{SHDN} (in) "Shutdown. Tie to 1.5V or greater to enable the device. Tie below 0.3V to turn off the device.", 8 VREF (out) "Bandgap Voltage Reference. Internally set to 1.235V. Connect this pin to FBP if generating a positive output, or to an external resistor divider if generating a negative voltage. This pin can provide up to 100uA of current (See Datasheet)", 9 FBP (in) "The Noninverting Input to the Error Amplifier. Connect resistive divider tap here for negative output voltage.", 10 FBN (in) "The Inverting Input to the Error Amplifier. Connect resistive divider tap here for positive output voltage.", 11 VC "Compensation Pin for Error Amplifier. Connect a series RC from this pin to GND. Typical values are 10kohm and 2.2nF.", 12 SS (in) "Soft-Start. Place a soft-start capacitor here. Leave floating if not in use.", 13 GND (power) "Ground. Tie directly to local ground plane.", 14 GND (power) "Ground. Tie directly to local ground plane.", 15 EP (power) "Power Ground. Must be connected to electrical PCB ground."

## LT3479EFE
designator U?
3 A, Full Featured DC/DC Converter with Soft-Start and Inrush Current Protection, 16-pin SOP (FE-16-EPV-BC), -40 to 85 degC; Manufacturer: Linear Technology; PartNumber: LT3479EFE; Number of Outputs: 1; PackageReference: FE-16; PackageDescription: 16-Pin Plastic TSSOP, Body 5 x 4.4 mm, Pitch 0.65 mm; Supplier 1: Newark; Supplier Part Number 1: 57M8337; RoHS: FALSE
footprint LT-FE-16-EPV-BC_N (SOP, 16-Leads, Body 5.1x4.5mm, Pitch 0.65mm, Thermal Pad 3.58x2.94mm, IPC Medium Density)
footprint LT-FE-16-EPV-BC_L (SOP, 16-Leads, Body 5.1x4.5mm, Pitch 0.65mm, Thermal Pad 3.58x2.94mm, IPC High Density)
footprint LT-FE-16-EPV-BC_M (SOP, 16-Leads, Body 5.1x4.5mm, Pitch 0.65mm, Thermal Pad 3.58x2.94mm, IPC Low Density)
pins: 1 SW (power) "Switch Pins. Collector of the internal NPN power switch. Connect the inductor and diode here and minimize the metal trace area connected to this pin to minimize electromagnetic interference.", 2 SW (power) "Switch Pins. Collector of the internal NPN power switch. Connect the inductor and diode here and minimize the metal trace area connected to this pin to minimize electromagnetic interference.", 3 L (power) "Inductor Pin. Connect the inductor to this pin.", 4 VS (power) "Inductor Supply. Must be locally bypassed. Powers the switch and the inductor. In case only one supply voltage is available, tie VIN and VS together.", 5 VIN (power) "Input Supply. Must be locally bypassed. Powers the internal control circuitry.", 6 RT "Timing Resistor Pin. Adjusts the switching frequency. Do not leave this pin open. See Table 4 for RT values and switching frequencies.", 7 ~{SHDN} (in) "Shutdown. Tie to 1.5V or greater to enable the device. Tie below 0.3V to turn off the device.", 8 GND (power) "Ground. Tie directly to local ground plane.", 9 VREF (out) "Bandgap Voltage Reference. Internally set to 1.235V. Connect this pin to FBP if generating a positive output, or to an external resistor divider if generating a negative voltage. This pin can provide up to 100uA of current (See Datasheet)", 10 FBP (in) "The Noninverting Input to the Error Amplifier. Connect resistive divider tap here for negative output voltage.", 11 FBN (in) "The Inverting Input to the Error Amplifier. Connect resistive divider tap here for positive output voltage.", 12 VC "Compensation Pin for Error Amplifier. Connect a series RC from this pin to GND. Typical values are 10kohm and 2.2nF.", 13 SS (in) "Soft-Start. Place a soft-start capacitor here. Leave floating if not in use.", 14 GND (power) "Ground. Tie directly to local ground plane.", 15 GND (power) "Ground. Tie directly to local ground plane.", 16 GND (power) "Ground. Tie directly to local ground plane.", 17 EP (power) "Power Ground. Must be connected to electrical PCB ground."

## LT3479EFE#PBF
designator U?
3 A, Full Featured DC/DC Converter with Soft-Start and Inrush Current Protection, 16-pin SOP (FE-16-EPV-BC), -40 to 85 degC, Pb-Free; Manufacturer: Linear Technology; PartNumber: LT3479EFE#PBF; Number of Outputs: 1; PackageReference: FE-16; PackageDescription: 16-Pin Plastic TSSOP, Body 5 x 4.4 mm, Pitch 0.65 mm; Supplier 1: Digi-Key; Supplier Part Number 1: LT3479EFE#PBF-ND; RoHS: TRUE
footprint LT-FE-16-EPV-BC_N (SOP, 16-Leads, Body 5.1x4.5mm, Pitch 0.65mm, Thermal Pad 3.58x2.94mm, IPC Medium Density)
footprint LT-FE-16-EPV-BC_L (SOP, 16-Leads, Body 5.1x4.5mm, Pitch 0.65mm, Thermal Pad 3.58x2.94mm, IPC High Density)
footprint LT-FE-16-EPV-BC_M (SOP, 16-Leads, Body 5.1x4.5mm, Pitch 0.65mm, Thermal Pad 3.58x2.94mm, IPC Low Density)
pins: 1 SW (power) "Switch Pins. Collector of the internal NPN power switch. Connect the inductor and diode here and minimize the metal trace area connected to this pin to minimize electromagnetic interference.", 2 SW (power) "Switch Pins. Collector of the internal NPN power switch. Connect the inductor and diode here and minimize the metal trace area connected to this pin to minimize electromagnetic interference.", 3 L (power) "Inductor Pin. Connect the inductor to this pin.", 4 VS (power) "Inductor Supply. Must be locally bypassed. Powers the switch and the inductor. In case only one supply voltage is available, tie VIN and VS together.", 5 VIN (power) "Input Supply. Must be locally bypassed. Powers the internal control circuitry.", 6 RT "Timing Resistor Pin. Adjusts the switching frequency. Do not leave this pin open. See Table 4 for RT values and switching frequencies.", 7 ~{SHDN} (in) "Shutdown. Tie to 1.5V or greater to enable the device. Tie below 0.3V to turn off the device.", 8 GND (power) "Ground. Tie directly to local ground plane.", 9 VREF (out) "Bandgap Voltage Reference. Internally set to 1.235V. Connect this pin to FBP if generating a positive output, or to an external resistor divider if generating a negative voltage. This pin can provide up to 100uA of current (See Datasheet)", 10 FBP (in) "The Noninverting Input to the Error Amplifier. Connect resistive divider tap here for negative output voltage.", 11 FBN (in) "The Inverting Input to the Error Amplifier. Connect resistive divider tap here for positive output voltage.", 12 VC "Compensation Pin for Error Amplifier. Connect a series RC from this pin to GND. Typical values are 10kohm and 2.2nF.", 13 SS (in) "Soft-Start. Place a soft-start capacitor here. Leave floating if not in use.", 14 GND (power) "Ground. Tie directly to local ground plane.", 15 GND (power) "Ground. Tie directly to local ground plane.", 16 GND (power) "Ground. Tie directly to local ground plane.", 17 EP (power) "Power Ground. Must be connected to electrical PCB ground."

## LT3479EFE#TR
designator U?
3 A, Full Featured DC/DC Converter with Soft-Start and Inrush Current Protection, 16-pin SOP (FE-16-EPV-BC), -40 to 85 degC, Tape and Reel; Manufacturer: Linear Technology; PartNumber: LT3479EFE#TR; Number of Outputs: 1; PackageReference: FE-16; PackageDescription: 16-Pin Plastic TSSOP, Body 5 x 4.4 mm, Pitch 0.65 mm; RoHS: FALSE
footprint LT-FE-16-EPV-BC_N (SOP, 16-Leads, Body 5.1x4.5mm, Pitch 0.65mm, Thermal Pad 3.58x2.94mm, IPC Medium Density)
footprint LT-FE-16-EPV-BC_L (SOP, 16-Leads, Body 5.1x4.5mm, Pitch 0.65mm, Thermal Pad 3.58x2.94mm, IPC High Density)
footprint LT-FE-16-EPV-BC_M (SOP, 16-Leads, Body 5.1x4.5mm, Pitch 0.65mm, Thermal Pad 3.58x2.94mm, IPC Low Density)
pins: 1 SW (power) "Switch Pins. Collector of the internal NPN power switch. Connect the inductor and diode here and minimize the metal trace area connected to this pin to minimize electromagnetic interference.", 2 SW (power) "Switch Pins. Collector of the internal NPN power switch. Connect the inductor and diode here and minimize the metal trace area connected to this pin to minimize electromagnetic interference.", 3 L (power) "Inductor Pin. Connect the inductor to this pin.", 4 VS (power) "Inductor Supply. Must be locally bypassed. Powers the switch and the inductor. In case only one supply voltage is available, tie VIN and VS together.", 5 VIN (power) "Input Supply. Must be locally bypassed. Powers the internal control circuitry.", 6 RT "Timing Resistor Pin. Adjusts the switching frequency. Do not leave this pin open. See Table 4 for RT values and switching frequencies.", 7 ~{SHDN} (in) "Shutdown. Tie to 1.5V or greater to enable the device. Tie below 0.3V to turn off the device.", 8 GND (power) "Ground. Tie directly to local ground plane.", 9 VREF (out) "Bandgap Voltage Reference. Internally set to 1.235V. Connect this pin to FBP if generating a positive output, or to an external resistor divider if generating a negative voltage. This pin can provide up to 100uA of current (See Datasheet)", 10 FBP (in) "The Noninverting Input to the Error Amplifier. Connect resistive divider tap here for negative output voltage.", 11 FBN (in) "The Inverting Input to the Error Amplifier. Connect resistive divider tap here for positive output voltage.", 12 VC "Compensation Pin for Error Amplifier. Connect a series RC from this pin to GND. Typical values are 10kohm and 2.2nF.", 13 SS (in) "Soft-Start. Place a soft-start capacitor here. Leave floating if not in use.", 14 GND (power) "Ground. Tie directly to local ground plane.", 15 GND (power) "Ground. Tie directly to local ground plane.", 16 GND (power) "Ground. Tie directly to local ground plane.", 17 EP (power) "Power Ground. Must be connected to electrical PCB ground."

## LT3479EFE#TRPBF
designator U?
3 A, Full Featured DC/DC Converter with Soft-Start and Inrush Current Protection, 16-pin SOP (FE-16-EPV-BC), -40 to 85 degC, Pb-Free, Tape and Reel; Manufacturer: Linear Technology; PartNumber: LT3479EFE#TRPBF; Number of Outputs: 1; PackageReference: FE-16; PackageDescription: 16-Pin Plastic TSSOP, Body 5 x 4.4 mm, Pitch 0.65 mm; Supplier 1: Digi-Key; Supplier Part Number 1: LT3479EFE#TRPBF-ND; RoHS: TRUE
footprint LT-FE-16-EPV-BC_N (SOP, 16-Leads, Body 5.1x4.5mm, Pitch 0.65mm, Thermal Pad 3.58x2.94mm, IPC Medium Density)
footprint LT-FE-16-EPV-BC_L (SOP, 16-Leads, Body 5.1x4.5mm, Pitch 0.65mm, Thermal Pad 3.58x2.94mm, IPC High Density)
footprint LT-FE-16-EPV-BC_M (SOP, 16-Leads, Body 5.1x4.5mm, Pitch 0.65mm, Thermal Pad 3.58x2.94mm, IPC Low Density)
pins: 1 SW (power) "Switch Pins. Collector of the internal NPN power switch. Connect the inductor and diode here and minimize the metal trace area connected to this pin to minimize electromagnetic interference.", 2 SW (power) "Switch Pins. Collector of the internal NPN power switch. Connect the inductor and diode here and minimize the metal trace area connected to this pin to minimize electromagnetic interference.", 3 L (power) "Inductor Pin. Connect the inductor to this pin.", 4 VS (power) "Inductor Supply. Must be locally bypassed. Powers the switch and the inductor. In case only one supply voltage is available, tie VIN and VS together.", 5 VIN (power) "Input Supply. Must be locally bypassed. Powers the internal control circuitry.", 6 RT "Timing Resistor Pin. Adjusts the switching frequency. Do not leave this pin open. See Table 4 for RT values and switching frequencies.", 7 ~{SHDN} (in) "Shutdown. Tie to 1.5V or greater to enable the device. Tie below 0.3V to turn off the device.", 8 GND (power) "Ground. Tie directly to local ground plane.", 9 VREF (out) "Bandgap Voltage Reference. Internally set to 1.235V. Connect this pin to FBP if generating a positive output, or to an external resistor divider if generating a negative voltage. This pin can provide up to 100uA of current (See Datasheet)", 10 FBP (in) "The Noninverting Input to the Error Amplifier. Connect resistive divider tap here for negative output voltage.", 11 FBN (in) "The Inverting Input to the Error Amplifier. Connect resistive divider tap here for positive output voltage.", 12 VC "Compensation Pin for Error Amplifier. Connect a series RC from this pin to GND. Typical values are 10kohm and 2.2nF.", 13 SS (in) "Soft-Start. Place a soft-start capacitor here. Leave floating if not in use.", 14 GND (power) "Ground. Tie directly to local ground plane.", 15 GND (power) "Ground. Tie directly to local ground plane.", 16 GND (power) "Ground. Tie directly to local ground plane.", 17 EP (power) "Power Ground. Must be connected to electrical PCB ground."

## LT3480EDD#PBF
designator U?
2 A, 2.4 MHz Step-Down Switching Regulator with 70 uA Quiescent Current, 10-pin SON (DD-10), -40 to 85 degC, Pb-Free; Manufacturer: Linear Technology; PartNumber: LT3480EDD#PBF; Number of Outputs: 1; PackageReference: DD-10; PackageDescription: 10-Pin Plastic DFN, Body 3 x 3 mm, Pitch 0.5 mm; Supplier 1: Digi-Key; Supplier Part Number 1: LT3480EDD#PBF-ND; RoHS: TRUE
footprint LT-DD-10_V (SON, 10-Leads, Body 3x3mm, Pitch 0.5mm, Thermal Pad 2.38x1.65mm)
pins: 1 BD (power) "This pin connects to the anode of the boost Schottky diode. BD also supplies current to the internal regulator.", 2 BOOST "This pin is used to provide a drive voltage, higher than the input voltage, to the internal bipolar NPN power switch.", 3 SW (power) "The SW pin is the output of the internal power switch. Connect this pin to the inductor, catch diode and boost capacitor.", 4 VIN (power) "The VIN pin supplies current to internal regulator and to the internal power switch. This pin must be locally bypassed.", 5 RUN/SS (in) "If the shutdown feature is not used, tie this pin to the VIN pin. RUN/SS also provides a soft-start function; see the Applications Information section.", 6 SYNC (in) "This is the external clock synchronization input. Ground this pin for low ripple Burst Mode operation at low output loads. Tie to a clock source for synchronization. Clock edges should have rise and fall times faster than (See Datasheet)", 7 PG (oc) "The PG pin is the open collector output of an internal comparator. PG remains low until the FB pin is within 9% of the final regulation voltage. PG output is valid when VIN is above 3.6V and RUN/SS is high.", 8 FB (in) "Connect the feedback resistor divider tap to this pin.", 9 VC "The VC pin is the output of the internal error amplifier. The voltage on this pin controls the peak switch current. Tie an RC network from this pin to ground to compensate the control loop.", 10 RT "Oscillator Resistor Input. Connecting a resistor to ground from this pin sets the switching frequency.", 11 EP (power) "Ground. The Exposed Pad must be soldered to PCB."